# Altium footprint library AC-5VDC Power Module.PcbLib: 1 footprints
Each footprint in its own frame and in the unit in brackets; x right, y up, seen from the top. Pads: shape width x height; smd on the part's side, far side on the other; paste and mask are expansions set on the pad; w line width, h text height; cw(c..) or ccw(c..) is an arc to the next point about the centre after c.

## AC-5VDC Power Module [mm] "85-240VAC to 5VDC 700mA 5W"
3D body "Power_Board_asm.STEP": height 18.2, standoff -4.66, extent 0.045,0.102 70.465,30.742